# Altium integrated library Motorola Peripheral Floppy Disk Controller.IntLib: 4 symbols
Pins are listed as number, name and electrical type; pins without a type are passive.

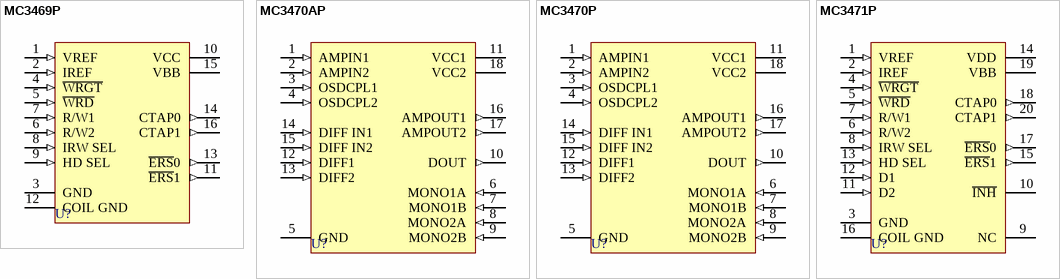
[diagram p0: symbols MC3469P to MC3471P]

## MC3469P
designator U?
Floppy Disk Write Controller; Published: 17-Jul-2002; LatestRevisionDate: 06-Jun-2005; LatestRevisionNote: Stylized 3D Model Added.; DatasheetVersion: 1988; PackageReference: 648-06; Publisher: Altium Limited; PackageDescription: DIP; 16 Leads; Row Spacing 7.62 mm; Pitch 2.54 mm
footprint 648-06 (DIP; 16 Leads; Row Spacing 7.62 mm; Pitch 2.54 mm)
3D model 648-06 (DIP; 16 Leads; Row Spacing 7.62 mm; Pitch 2.54 mm)
pins: 1 VREF (in), 2 IREF (in), 3 GND (power), 4 ~{WRGT} (in), 5 ~{WRD} (in), 6 R/W2 (in), 7 R/W1 (in), 8 IRW SEL (in), 9 HD SEL (in), 10 VCC (power), 11 ~{ERS}1 (out), 12 COIL GND (power), 13 ~{ERS}0 (out), 14 CTAP0 (out), 15 VBB (power), 16 CTAP1 (out)

## MC3470AP
designator U?
Floppy Disk Read Amplifier System; Published: 17-Jul-2002; LatestRevisionDate: 06-Jun-2005; LatestRevisionNote: Stylized 3D Model Added.; DatasheetVersion: 1988; PackageReference: 707-02; Publisher: Altium Limited; PackageDescription: DIP; 18 Leads; Row Spacing 7.62 mm; Pitch 2.54 mm
footprint 707-02 (DIP; 18 Leads; Row Spacing 7.62 mm; Pitch 2.54 mm)
3D model 707-02 (DIP; 18 Leads; Row Spacing 7.62 mm; Pitch 2.54 mm)
pins: 1 AMPIN1 (in), 2 AMPIN2 (in), 3 OSDCPL1 (in), 4 OSDCPL2 (in), 5 GND (power), 6 MONO1A (in), 7 MONO1B (in), 8 MONO2A (in), 9 MONO2B (in), 10 DOUT (out), 11 VCC1 (power), 12 DIFF1 (in), 13 DIFF2 (in), 14 DIFF IN1 (in), 15 DIFF IN2 (in), 16 AMPOUT1 (out), 17 AMPOUT2 (out), 18 VCC2 (power)

## MC3470P
designator U?
Floppy Disk Read Amplifier System; Published: 17-Jul-2002; LatestRevisionDate: 06-Jun-2005; LatestRevisionNote: Stylized 3D Model Added.; DatasheetVersion: 1988; PackageReference: 707-02; Publisher: Altium Limited; PackageDescription: DIP; 18 Leads; Row Spacing 7.62 mm; Pitch 2.54 mm
footprint 707-02 (DIP; 18 Leads; Row Spacing 7.62 mm; Pitch 2.54 mm)
3D model 707-02 (DIP; 18 Leads; Row Spacing 7.62 mm; Pitch 2.54 mm)
pins: 1 AMPIN1 (in), 2 AMPIN2 (in), 3 OSDCPL1 (in), 4 OSDCPL2 (in), 5 GND (power), 6 MONO1A (in), 7 MONO1B (in), 8 MONO2A (in), 9 MONO2B (in), 10 DOUT (out), 11 VCC1 (power), 12 DIFF1 (in), 13 DIFF2 (in), 14 DIFF IN1 (in), 15 DIFF IN2 (in), 16 AMPOUT1 (out), 17 AMPOUT2 (out), 18 VCC2 (power)

## MC3471P
designator U?
Floppy Disk Write Controller/Head Driver; Published: 17-Jul-2002; LatestRevisionDate: 06-Jun-2005; LatestRevisionNote: Stylized 3D Model Added.; DatasheetVersion: 1988; PackageReference: 738-03; Publisher: Altium Limited; PackageDescription: DIP; 20 Leads; Row Spacing 7.62 mm; Pitch 2.54 mm; Code_JEDEC: MS-001-AD
footprint 738-03 (DIP; 20 Leads; Row Spacing 7.62 mm; Pitch 2.54 mm)
3D model 738-03 (DIP; 20 Leads; Row Spacing 7.62 mm; Pitch 2.54 mm)
pins: 1 VREF (in), 2 IREF (in), 3 GND (power), 4 ~{WRGT} (in), 5 ~{WRD} (in), 6 R/W2 (in), 7 R/W1 (in), 8 IRW SEL (in), 9 NC, 10 ~{INH} (oc), 11 D2 (in), 12 D1 (in), 13 HD SEL (in), 14 VDD (power), 15 ~{ERS}1 (out), 16 COIL GND (power), 17 ~{ERS}0 (out), 18 CTAP0 (out), 19 VBB (power), 20 CTAP1 (out)